# Altium footprint library breakout_board.PcbLib: 29 footprints (part 2 of 2)
Each footprint in its own frame and in the unit in brackets; x right, y up, seen from the top. Pads: shape width x height; smd on the part's side, far side on the other; paste and mask are expansions set on the pad; w line width, h text height; cw(c..) or ccw(c..) is an arc to the next point about the centre after c.
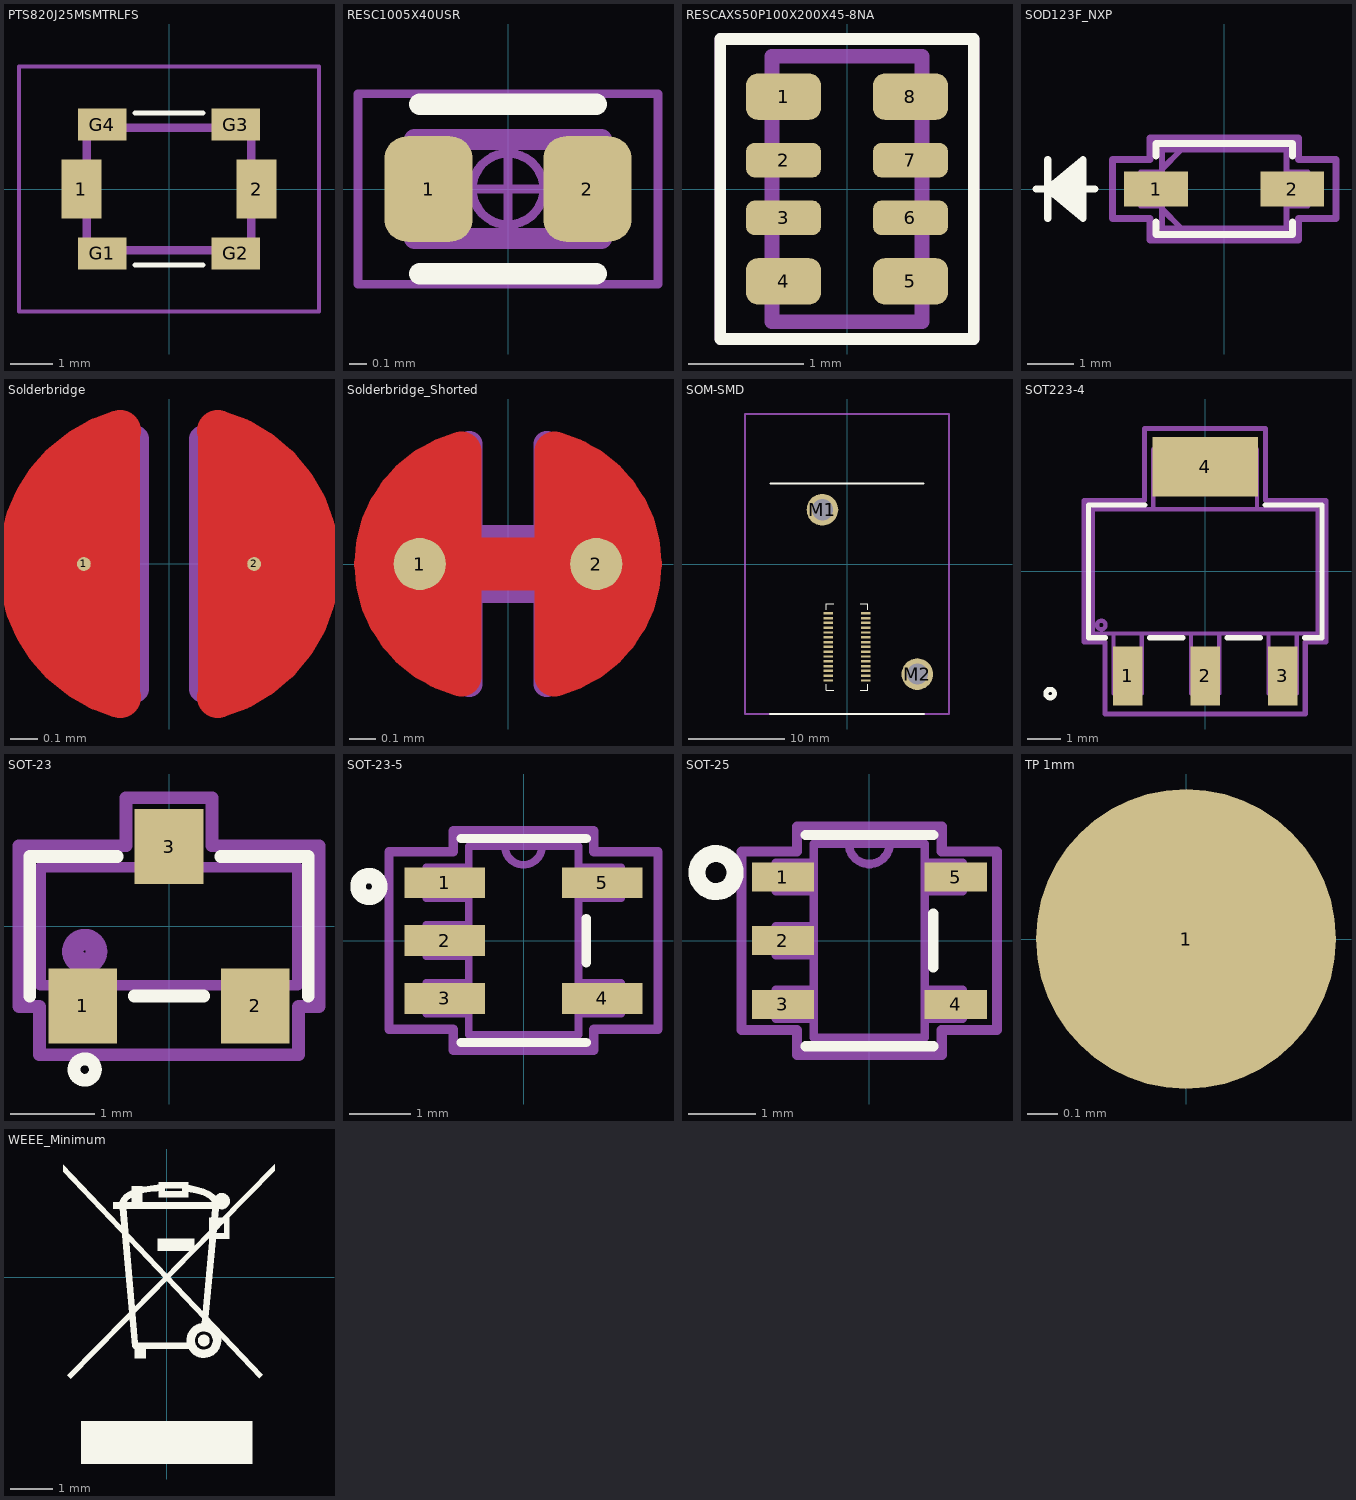
[diagram p1: the footprints below, top view; thin cyan lines are the x and y axes]

## PTS820J25MSMTRLFS [mm]
pads (6):
  rect 0.95x1.4 smd: 1(-2.075,0) 2(2.075,0)
  rect 1.15x0.75 smd: G1(-1.575,-1.525) G2(1.575,-1.525) G3(1.575,1.525) G4(-1.575,1.525)
Top Overlay:
  lines w0.127: -0.8,-1.8 0.8,-1.8 ; -0.8,1.8 0.8,1.8
Mechanical 15:
  lines w0.1: -3.55,-2.9 -3.55,2.9 3.55,2.9 3.55,-2.9 -3.55,-2.9
Mechanical 16:
  lines w0.2: -1.95,-1.45 1.95,-1.45 1.95,1.45 -1.95,1.45 -1.95,-1.45
  text ".Designator" at -0.889,-0.399 h1.52
3D body "PUSHBUTTON-PTS820 v3.step": height 2.05, standoff 0.05, extent -2.25,-1.45 2.25,1.45

## RESC1005X40USR [mm] "Resistor, Chip; 1.00 mm L X 0.50 mm W X 0.40 mm H body"
height 0.4
pads (2):
  rrect52% 0.5x0.6 smd: 1(-0.45,0) 2(0.45,0)
Top Overlay:
  lines w0.12: -0.5,-0.48 0.5,-0.48 ; -0.5,0.48 0.5,0.48
Mechanical 15:
  circle w0.05: c0,0 r0.202
  lines w0.05: -0.27,0 0.27,0 ; 0,-0.27 0,0.27 ; -0.85,-0.54 -0.85,0.54 0.85,0.54 0.85,-0.54 -0.85,-0.54
Mechanical 16:
  lines w0.12: -0.53,-0.28 -0.53,0.28 0.53,0.28 0.53,-0.28 -0.53,-0.28
  text ".Designator" at 0.911,-0.474 h1.52
3D body "RESC1005X40USR.STEP": height 0.4, standoff 0, extent -0.5,-0.25 0.5,0.25

## RESCAXS50P100X200X45-8NA [mm] "2 Side, Convex"
height 0.45
pads (8):
  rrect50% 0.65x0.4 smd mask+0.051: 1(-0.55,0.8) 4(-0.55,-0.8) 5(0.55,-0.8) 8(0.55,0.8)
  rrect50% 0.65x0.3 smd mask+0.051: 2(-0.55,0.25) 3(-0.55,-0.25) 6(0.55,-0.25) 7(0.55,0.25)
Top Overlay:
  lines w0.1: -1.1,-1.3 1.1,-1.3 1.1,1.3 -1.1,1.3 -1.1,-1.3
Mechanical 15:
  lines w0.1: -1.1,-1.3 -1.1,1.3 1.1,1.3 1.1,-1.3 -1.1,-1.3
Mechanical 16:
  lines w0.127: -0.65,-1.15 -0.65,1.15 0.65,1.15 0.65,-1.15 -0.65,-1.15
  text ".Designator" at 0.4,-1.025 h1.27
3D body: height 0.45, standoff 0, extent -0.65,-1.15 0.65,1.15

## SOD123F_NXP [mil]
pads (2):
  rect 54x30 smd paste+0 mask+0: 1(-58,0) 2(58,0)
Top Overlay:
  lines w6: -160,0 -110,0 ; -150,-25 -150,25 ; -120,-20 -150,0 ; -120,-15 -150,0 ; -120,-10 -150,0 ; -120,-5 -150,0 ; -120,5 -150,0 ; -120,10 -150,0 ; -120,15 -150,0 ; -120,20 -150,0 ; -58,-28.1 -58,-38.5 58,-38.5 58,-28.1 ; -58,28.1 -58,38.5 58,38.5 58,28.1 ; -150,0 -120,-25 -120,25 -150,0
Mechanical 15:
  lines w6: -95,-25 -63,-25 -63,-43.5 63,-43.5 63,-25 95,-25 95,25 63,25 63,43.5 -63,43.5 -63,25 -95,25 -95,-25
Mechanical 16:
  lines w1: -160,0 -110,0 ; -150,-25 -150,25 ; -120,-20 -150,0 ; -120,-15 -150,0 ; -120,-10 -150,0 ; -120,-5 -150,0 ; -120,5 -150,0 ; -120,10 -150,0 ; -120,15 -150,0 ; -120,20 -150,0 ; -150,0 -120,-25 -120,25 -150,0
  lines w5: -53,-16.75 -36.25,-33.5 ; -53,16.75 -36.25,33.5 ; -71,-14 -71,14 -53,14 -53,-14 -71,-14 ; -53,-33.5 53,-33.5 53,33.5 -53,33.5 -53,-33.5 ; 53,-14 53,14 71,14 71,-14 53,-14
  text ".Designator" at -4,-6 h12
3D body "SOD123F_NXP.step": height 47.09, standoff 0, extent -70.98,-33.5 70.99,33.51

## Solderbridge [mil]
pads (2):
  round 2 smd paste-393.7: 1(-12.3,0) 2(12.3,0)
Top Layer:
  region: -4.2,-19.25 -5.15,-20.17 -10.66,-18.39 -13.2,-16.7 -16.1,-13.8 -18.2,-11.5 -20.5,-7.6 -21.6,-3.9 -21.4,4.8 -20.4,7.6 -17.1,13 -13.8,16.2 -10.19,18.46 -6.2,19.7 -4.2,19
  region: 4.2,19.25 5.15,20.17 10.66,18.39 13.2,16.7 16.1,13.8 18.2,11.5 20.5,7.6 21.6,3.9 21.4,-4.8 20.4,-7.6 17.1,-13 13.8,-16.2 10.19,-18.46 6.2,-19.7 4.2,-19
  lines w6: -7.07,-19.26 cw(c-1.67,0) -21.67,0 cw(c-1.67,0) -7.07,19.26 ; 7.07,-19.26 ccw(c1.67,0) 7.07,19.26
Top Solder:
  circle w24: c-0.1,0 r11
Mechanical 16:
  lines w3.94: -4.86,-18.07 cw(c-1.67,0) -4.86,18.07 -4.86,-18.07 ; 4.86,-18.07 ccw(c1.67,0) 4.86,18.07 4.86,-18.07
  text ".Designator" at 25,-6 h12

## Solderbridge_Shorted [mm]
pads (2):
  round 0.2 smd paste-10: 1(-0.338,0) 2(0.338,0)
Top Layer:
  region: -0.102,-0.432 -0.178,-0.505 -0.296,-0.467 -0.361,-0.424 -0.434,-0.351 -0.488,-0.292 -0.546,-0.193 -0.574,-0.099 -0.569,0.122 -0.544,0.193 -0.46,0.33 -0.376,0.411 -0.284,0.469 -0.183,0.5 -0.132,0.483 -0.102,0.43
  region: 0.102,0.432 0.178,0.505 0.296,0.467 0.361,0.424 0.434,0.351 0.488,0.292 0.546,0.193 0.574,0.099 0.569,-0.122 0.544,-0.193 0.46,-0.33 0.376,-0.411 0.284,-0.469 0.183,-0.5 0.132,-0.483 0.102,-0.43
  lines w0.152: -0.178,-0.431 cw(c-0.068,0) -0.178,0.431 ; 0.178,-0.431 ccw(c0.068,0) 0.178,0.431
  lines w0.203: -0.338,0 0.338,0
Top Solder:
  circle w0.61: c0.028,0 r0.279
  circle w0.61: c-0.028,0 r0.279
Mechanical 16:
  lines w0.1: -0.148,-0.459 cw(c-0.067,0) -0.148,0.459 -0.148,0.1 0.148,0.1 0.148,0.459 cw(c0.067,0) 0.148,-0.459 0.148,-0.1 -0.148,-0.1 -0.148,-0.459
  text ".Designator" at 0.635,-0.152 h0.3

## SOM-SMD [mm]
pads (32):
  rect 1x0.25 smd mask+0.051: 1(-1.95,-5.15) 2(1.95,-5.15) 3(-1.95,-5.65) 4(1.95,-5.65) 5(-1.95,-6.15) 6(1.95,-6.15) 7(-1.95,-6.65) 8(1.95,-6.65) 9(-1.95,-7.15) 10(1.95,-7.15) 11(-1.95,-7.65) 12(1.95,-7.65) 13(-1.95,-8.15) 14(1.95,-8.15) 15(-1.95,-8.65) 16(1.95,-8.65) 17(-1.95,-9.15) 18(1.95,-9.15) 19(-1.95,-9.65) 20(1.95,-9.65) 21(-1.95,-10.15) 22(1.95,-10.15) 23(-1.95,-10.65) 24(1.95,-10.65) 25(-1.95,-11.15) 26(1.95,-11.15) 27(-1.95,-11.65) 28(1.95,-11.65) 29(-1.95,-12.15) 30(1.95,-12.15)
  round 3.302 hole 2.2: M1(-2.562,5.662) M2(7.344,-11.483)
Top Overlay:
  lines w0.127: -2.15,-12.561 -2.15,-13.155 -1.367,-13.155 ; -2.15,-4.748 -2.15,-4.155 -1.367,-4.155 ; 1.367,-13.155 2.15,-13.155 2.15,-12.561 ; 1.367,-4.155 2.15,-4.155 2.15,-4.748
  lines w0.2: -8,8.4 8,8.4
  lines w0.254: -8,-15.65 8,-15.65
Mechanical 16:
  lines w0.2: -10.65,-15.65 -10.65,15.65 10.65,15.65 10.65,-15.65 -10.65,-15.65
  text ".Designator" at -0.158,-8 h1.27
3D body: height 16.5, standoff 7.5, extent -13.444,2.409 -13.444,2.409
3D body "DF23C-30DP-0.5V.stp": height 1.2, standoff 0, extent -2.15,-13.155 2.15,-4.155
3D body "TINYMODULE-V3.step": height 5.19, standoff -0.52, extent -10.65,-15.65 10.65,15.65

## SOT223-4 [mil]
pads (4):
  rect 35x69.5 smd: 1(-91,-122.75) 2(0,-122.75) 3(91,-122.75)
  rect 124x69.5 smd: 4(0,122.75)
Top Overlay:
  circle w6: c-182,-143.5 r5
  lines w6: -116.96,-78 -137,-78 -137,78 -70.46,78 ; -65.04,-78 -25.96,-78 ; 25.96,-78 65.04,-78 ; 70.46,78 137,78 137,-78 116.96,-78
Mechanical 15:
  lines w6: -142,-83 -142,83 -71,83 -71,167.5 71,167.5 71,83 142,83 142,-83 117.5,-83 117.5,-167.5 -117.5,-167.5 -117.5,-83 -142,-83
Mechanical 16:
  circle w5: c-122,-63 r5
  lines w5: -132,-73 132,-73 132,73 -132,73 -132,-73 ; -107.5,-143.5 -74.5,-143.5 -74.5,-73 -107.5,-73 -107.5,-143.5 ; -61,73 61,73 61,143.5 -61,143.5 -61,73 ; -16.5,-143.5 16.5,-143.5 16.5,-73 -16.5,-73 -16.5,-143.5 ; 74.5,-143.5 107.5,-143.5 107.5,-73 74.5,-73 74.5,-143.5
  text ".Designator" at -7.65,-3.33 h12
3D body "DCY4.step": height 67.09, standoff 0, extent -132,-143.5 132.01,143.51

## SOT-23 [mil]
pads (3):
  rect 32x35 smd paste+0 mask+0: 1(-40.35,-37.2) 2(40.35,-37.2) 3(0,37.2)
Top Overlay:
  circle w6: c-39.37,-66.93 r5
  lines w6: -65.04,-32.56 -65.04,32.56 -24.14,32.56 ; -16.21,-32.56 16.21,-32.56 ; 24.14,32.56 65.04,32.56 65.04,-32.56
Mechanical 15:
  lines w6: -60.39,-60 -60.39,-37.56 -70.04,-37.56 -70.04,37.56 -20.04,37.56 -20,60 ; -60,-60 60,-60 ; -20.04,60 20.04,60 20.04,37.56 70.04,37.56 70.04,-37.56 60.39,-37.56 60.39,-60
Mechanical 16:
  circle w10: c-39.37,-11.81 r5.57
  lines w1: -50.39,-27.56 -30.32,-27.56 ; -10.04,27.56 10.04,27.56 ; 30.32,-27.56 50.39,-27.56
  lines w5: -50.39,-27.56 -50.39,-49.21 -30.32,-49.21 -30.32,-27.56 ; -10.04,27.56 -10.04,49.21 10.04,49.21 10.04,27.56 ; 30.32,-27.56 30.32,-49.21 50.39,-49.21 50.39,-27.56 ; -60.04,-27.56 60.04,-27.56 60.04,27.56 -60.04,27.56 -60.04,-27.56
  text ".Designator" at -5.87,-16.28 h60
3D body "SC-74-3.stp": height 44.88, standoff 1.38, extent -57.09,-51.18 57.08,51.18

## SOT-23-5 [mil]
pads (5):
  rect 52x20 smd paste+0 mask+0: 1(-51,37.4) 2(-51,0) 3(-51,-37.4) 4(51,-37.4) 5(51,37.4)
Top Overlay:
  circle w10: c-100,35 r7.07
  lines w6: -40.5,-66 40.5,-66 ; -40.5,66 40.5,66 ; 40.5,-14.3 40.5,14.3
Mechanical 15:
  lines w6: -87,-57.4 -87,57.4 -45.5,57.4 -45.5,71 45.5,71 45.5,57.4 87,57.4 87,-57.4 45.5,-57.4 45.5,-71 -45.5,-71 -45.5,-57.4 -87,-57.4
Mechanical 16:
  lines w5: -12,61 ccw(c0,61) 12,61 ; -63,-47.4 -63,-27.4 -35.5,-27.4 -35.5,-47.4 -63,-47.4 ; -63,-10 -63,10 -35.5,10 -35.5,-10 -63,-10 ; -63,27.4 -63,47.4 -35.5,47.4 -35.5,27.4 -63,27.4 ; -35.5,-61 -35.5,61 35.5,61 35.5,-61 -35.5,-61 ; 35.5,-47.4 35.5,-27.4 63,-27.4 63,-47.4 35.5,-47.4 ; 35.5,27.4 35.5,47.4 63,47.4 63,27.4 35.5,27.4
  text ".Designator" at 1,-5 h12
3D body "SOT-23-5_MC_MCH.step": height 57.09, standoff 0, extent -62.99,-60.98 63,60.99

## SOT-25 [mil]
pads (5):
  rect 36.5x17 smd paste+0 mask+0: 1(-50.75,37.4) 2(-50.75,0) 3(-50.75,-37.4) 4(50.75,-37.4) 5(50.75,37.4)
Top Overlay:
  circle w10: c-90,40 r11.18
  lines w6: -37.5,-62 37.5,-62 ; -37.5,62 37.5,62 ; 37.5,-15.8 37.5,15.8
Mechanical 15:
  lines w6: -75,-52.4 -42.5,-52.4 -42.5,-67 42.5,-67 42.5,-52.4 75,-52.4 75,52.4 42.5,52.4 42.5,67 -42.5,67 -42.5,52.4 -75,52.4 -75,-52.4
Mechanical 16:
  lines w5: -12,57 ccw(c0,57) 12,57 ; -55,-45.9 -55,-28.9 -32.5,-28.9 -32.5,-45.9 -55,-45.9 ; -55,-8.5 -32.5,-8.5 -32.5,8.5 -55,8.5 -55,-8.5 ; -55,28.9 -55,45.9 -32.5,45.9 -32.5,28.9 -55,28.9 ; -32.5,-57 32.5,-57 32.5,57 -32.5,57 -32.5,-57 ; 32.5,-45.9 55,-45.9 55,-28.9 32.5,-28.9 32.5,-45.9 ; 32.5,28.9 32.5,45.9 55,45.9 55,28.9 32.5,28.9
  text ".Designator" at -3.7,-4.92 h12
3D body "SOT-25_TOR.step": height 51.1, standoff 0, extent -55,-57 55,57.01

## TP 1mm [mm] "1 mm Probe Pad"
pads (1):
  round 1 smd: 1(0,0)

## WEEE_Minimum [mm]
Top Overlay:
  drawing of 23 lines, arcs and shapes, not listed